# EAGLE library part MMA7260Q (library special_parts)
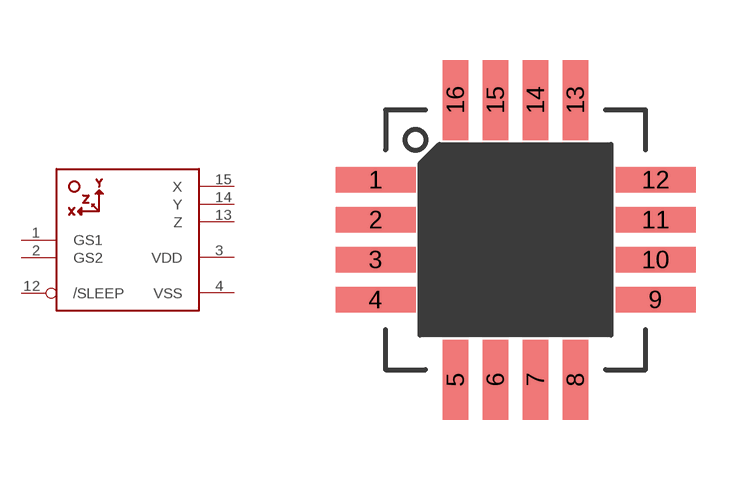
[diagram p1: symbol with the pads of 16LEADQFN; footprint 16LEADQFN]

Designator prefix -

## MMA7260Q  [16LEADQFN]
1  GS1  in
2  GS2  in
3  VDD
4  VSS
12  /SLEEP  in
13  Z  out
14  Y  out
15  X  out

## Footprint 16LEADQFN (pad centres in mm)
smd 2 x 0.635: 1 -3.5,1.5; 2 -3.5,0.5; 3 -3.5,-0.5; 4 -3.5,-1.5; 9 3.5,-1.5; 10 3.5,-0.5; 11 3.5,0.5; 12 3.5,1.5
smd 0.635 x 2: 5 -1.5,-3.5; 6 -0.5,-3.5; 7 0.5,-3.5; 8 1.5,-3.5; 13 1.5,3.5; 14 0.5,3.5; 15 -0.5,3.5; 16 -1.5,3.5